# Altium schematic symbol library CapChipCer.SchLib: 223 symbols (part 2 of 2)
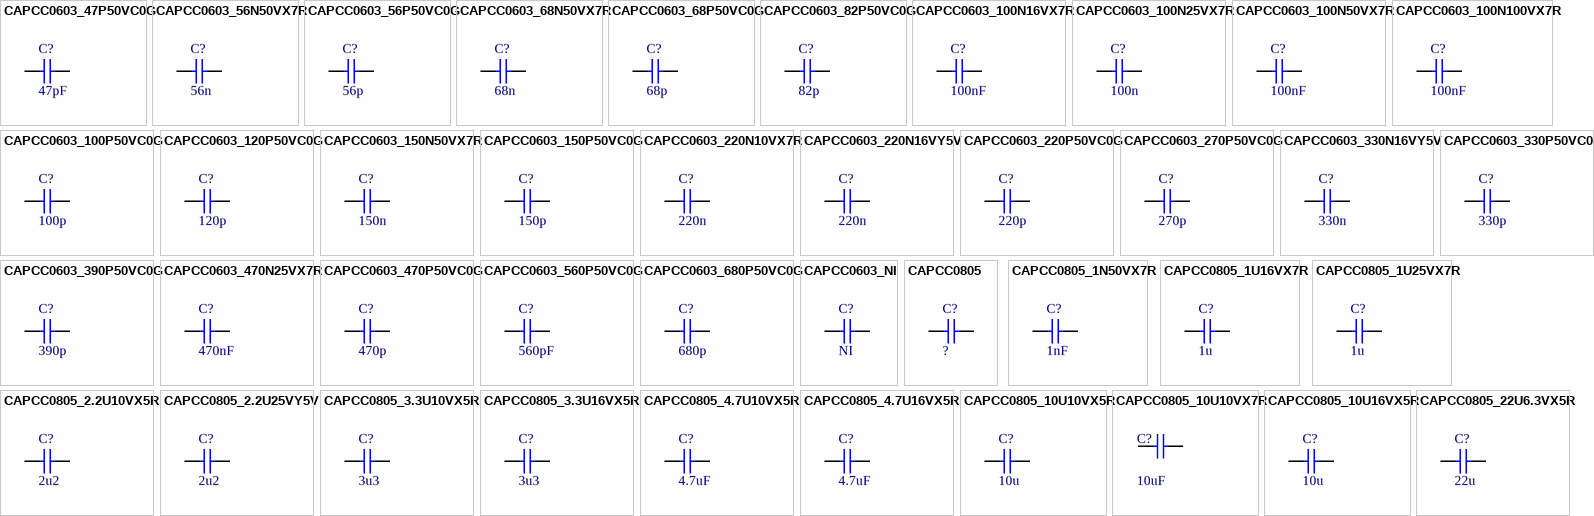
[diagram p6: symbols CAPCC0603_47P50VC0G to CAPCC0805_22U6.3VX5R]

## CAPCC0805_2.2U25VY5V
designator C?, comment 2u2
Capacitor chip ceramic 0805; Manufacturer: Murata, Farnell; Manufacturer No: GRM21BF51E225ZA01L, 9527702; Comment2: 25V X5R +80%-20%; Sort: 210; Tech: SMDR; Package: Cap Chip 0805; Price: 0
signal-integrity model Model Name (Model Description)
footprint CC0805-1 (Chip capacitor  0805)
pins: 1, 2

## CAPCC0805_3.3U10VX5R
designator C?, comment 3u3
Capacitor chip ceramic 0805; Comment2: 10V X5R 10%; Sort: 210; Tech: SMDR; Package: Cap Chip 0805; Price: 0
signal-integrity model Model Name (Model Description)
footprint CC0805-1 (Chip capacitor  0805)
pins: 1, 2

## CAPCC0805_3.3U16VX5R
designator C?, comment 3u3
Capacitor chip ceramic 0805; Manufacturer: Kemet, Farnell; Manufacturer No: C0805C335K4PACTU, 1572630; Comment2: 16V X5R 10%; Sort: 210; Tech: SMDR; Package: Cap Chip 0805; Price: 0
signal-integrity model Model Name (Model Description)
footprint CC0805-1 (Chip capacitor  0805)
pins: 1, 2

## CAPCC0805_4.7U10VX5R
designator C?, comment 4.7uF
Capacitor chip ceramic 0805; Manufacturer: Murata, Farnell; Manufacturer No: GRM21BR61A475KA73L, 1845742; Comment2: 10V X5R 10%; Sort: 210; Tech: SMDR; Package: Cap Chip 0805; Price: 0.075
signal-integrity model Model Name (Model Description)
footprint CC0805-1 (Chip capacitor  0805)
pins: 1, 2

## CAPCC0805_4.7U16VX5R
designator C?, comment 4.7uF
Capacitor chip ceramic 0805; Manufacturer: Murata, Farnell; Manufacturer No: GRM219R61C475KE15D, 1845746; Comment2: 16V X5R 10%; Sort: 210; Tech: SMDR; Package: Cap Chip 0805; Price: 0.08
signal-integrity model Model Name (Model Description)
footprint CC0805-1 (Chip capacitor  0805)
pins: 1, 2

## CAPCC0805_10U10VX5R
designator C?, comment 10u
Capacitor chip ceramic 0805; Manufacturer: Kemet, Farnell; Manufacturer No: C0805C106K8PAC-TU, 1463362; Comment2: 10V X5R 10%; Sort: 210; Tech: SMDR; Package: Cap Chip 0805; Price: 0.25
signal-integrity model Model Name (Model Description)
footprint CC0805-1 (Chip capacitor  0805)
pins: 1, 2

## CAPCC0805_10U10VX7R
designator C?, comment 10uF
Capacitor chip ceramic 0805; Manufacturer: Murata, Farnell; Manufacturer No: GRM21BR71A106KE51L, 1828828; Comment2: 10V X7R 10%; Sort: 210; Tech: SMDR; Package: Cap Chip 0805; Price: 0.34
signal-integrity model Model Name (Model Description)
footprint CC0805-1 (Chip capacitor  0805)
pins: 1, 2

## CAPCC0805_10U16VX5R
designator C?, comment 10u
Capacitor chip ceramic 0805; Comment2: 16V X5R 10%; Sort: 210; Tech: SMDR; Package: Cap Chip 0805; Price: 0
signal-integrity model Model Name (Model Description)
footprint CC0805-1 (Chip capacitor  0805)
pins: 1, 2

## CAPCC0805_22U6.3VX5R
designator C?, comment 22u
Capacitor chip ceramic 0805; Manufacturer: Farnell, Kemet; Manufacturer No: 1650873, C0805C226M9PAC-TU; Comment2: 6.3V X5R 20%; Sort: 210; Tech: SMDR; Package: Cap Chip 0805; Price: 0.5
signal-integrity model Model Name (Model Description)
footprint CC0805-1 (Chip capacitor  0805)
pins: 1, 2

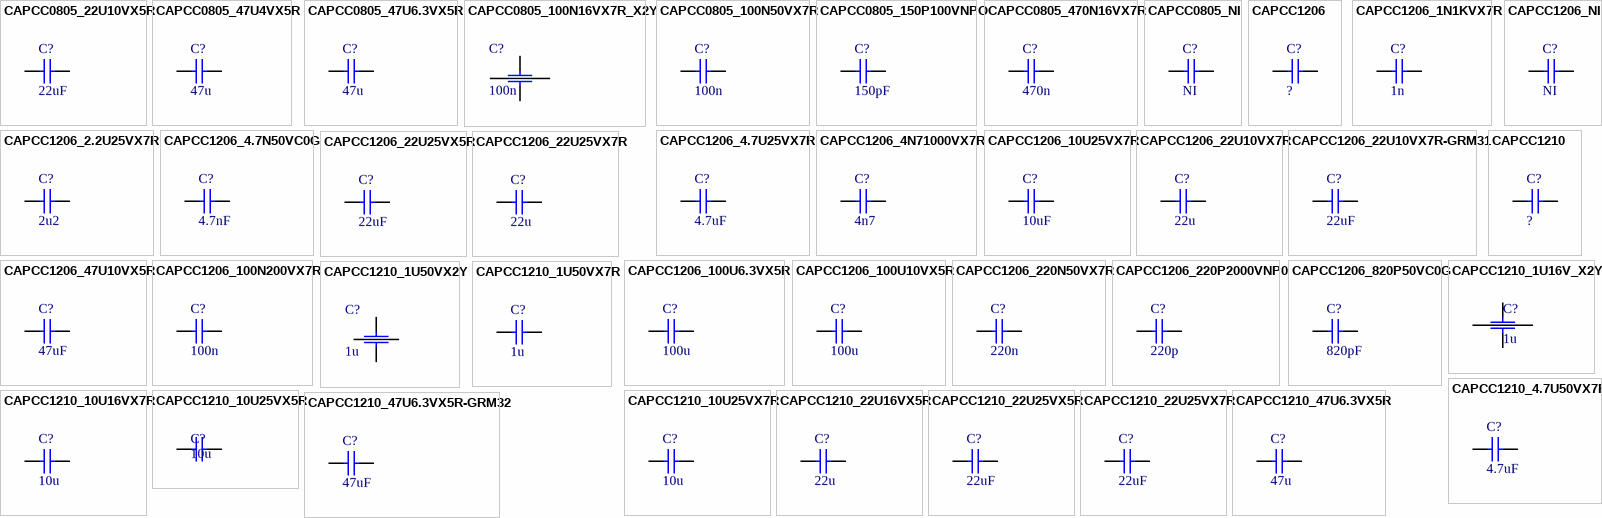
[diagram p4: symbols CAPCC0805_22U10VX5R to CAPCC1210_47U6.3VX5R-GRM32]

## CAPCC0805_22U10VX5R
designator C?, comment 22uF
Capacitor chip ceramic 0805; Manufacturer: TDK; Manufacturer No: C2012X5R1A226M125AB; Comment2: 10V X5R 20%; Sort: 210; Tech: SMDR; Package: Cap Chip 0805; Price: 0.52; Supplier: Digi-Key; Supplier No: 445-7665-1-ND
signal-integrity model Model Name (Model Description)
footprint CC0805-1 (Chip capacitor  0805)
pins: 1, 2

## CAPCC0805_47U4VX5R
designator C?, comment 47u
Capacitor chip ceramic 0805; Manufacturer: Kemet, Farnell; Manufacturer No: C0805C476M7PAC, 1288205; Comment2: 4V X5R 20%; Sort: 210; Tech: SMDR; Package: Cap Chip 0805; Price: 2.64
signal-integrity model Model Name (Model Description)
footprint CC0805-1 (Chip capacitor  0805)
pins: 1, 2

## CAPCC0805_47U6.3VX5R
designator C?, comment 47u
Capacitor chip ceramic 0805; Manufacturer: Kemet, Farnell; Manufacturer No: C0805C476M9PAC 7800, 1572633; Comment2: 6.3V X5R 20%; Sort: 210; Tech: SMDR; Package: Cap Chip 0805; Price: 2.64
signal-integrity model Model Name (Model Description)
footprint CC0805-1 (Chip capacitor  0805)
pins: 1, 2

## CAPCC0805_100N16VX7R_X2Y
designator C?, comment 100n
Capacitor chip ceramic 0805; Comment2: X2Y 16V X7R 20; Sort: 210; Tech: SMDR; Package: Cap Chip 0805 X2Y; Price: 0.035
signal-integrity model Model Name (Model Description)
footprint CC0805-X2Y (Chip capacitor 0805 X2Y)
footprint CC0805-X2Y-1 (Chip capacitor 0805 X2Y)
pins: 1, 2, 3, 3

## CAPCC0805_100N50VX7R
designator C?, comment 100n
Capacitor chip ceramic 0805; Comment2: 50V X7R 10%; Sort: 210; Tech: SMDR; Package: Cap Chip 0805; Price: 0
signal-integrity model Model Name (Model Description)
footprint CC0805-1 (Chip capacitor  0805)
pins: 1, 2

## CAPCC0805_150P100VNPO
designator C?, comment 150pF
Capacitor chip ceramic 0805; Manufacturer: AVX, Farnell; Manufacturer No: 08051A151JAT2A, 1740658; Comment2: 100V COG; Sort: 210; Tech: SMDR; Package: Cap Chip 0805; Price: 0
signal-integrity model Model Name (Model Description)
footprint CC0805-1 (Chip capacitor  0805)
pins: 1, 2

## CAPCC0805_470N16VX7R
designator C?, comment 470n
Capacitor chip ceramic 0805; Comment2: 16V X7R 10%; Sort: 210; Tech: SMDR; Package: Cap Chip 0805; Price: 0
signal-integrity model Model Name (Model Description)
footprint CC0805-1 (Chip capacitor  0805)
pins: 1, 2

## CAPCC0805_NI
designator C?, comment NI
Capacitor chip ceramic 0805; Sort: 210; Tech: SMDR; Package: Cap Chip 0805; Price: 0
signal-integrity model Model Name (Model Description)
footprint CC0805-1 (Chip capacitor  0805)
pins: 1, 2

## CAPCC1206
designator C?, comment ?
Capacitor chip ceramic 1206; Comment2: xxV X7R; Sort: 210; Tech: SMDR; Package: Cap Chip 1206; Price: 0
signal-integrity model Model Name (Model Description)
footprint CC1206-1 (Chip capacitor 1206 (3216))
pins: 1, 2

## CAPCC1206_1N1KVX7R
designator C?, comment 1n
Capacitor chip ceramic 1206; Manufacturer: AVX, Farnell; Manufacturer No: 1206AC102KAT2A , 1216463; Comment2: 1000V X7R 10%; Sort: 210; Tech: SMDR; Package: Cap Chip 1206; Price: 1.9
signal-integrity model Model Name (Model Description)
footprint CC1206-1 (Chip capacitor 1206 (3216))
pins: 1, 2

## CAPCC1206_2.2U25VX7R
designator C?, comment 2u2
Capacitor chip ceramic 1206; Manufacturer: AVX, Farnell; Manufacturer No: 12063C225KAZ2A, 1301808; Comment2: 25V X7R 10%; Sort: 210; Tech: SMDR; Package: Cap Chip 1206; Price: 1.9
signal-integrity model Model Name (Model Description)
footprint CC1206-1 (Chip capacitor 1206 (3216))
pins: 1, 2

## CAPCC1206_4.7N50VC0G
designator C?, comment 4.7nF
Capacitor chip ceramic 1206; Manufacturer: Kemet, Farnell; Manufacturer No: C1206C472J5GATCU, 1414737; Comment2: 50V C0G 5%; Sort: 210; Tech: SMDR; Package: Cap Chip 1206; Price: 0.43
signal-integrity model Model Name (Model Description)
footprint CC1206-1 (Chip capacitor 1206 (3216))
pins: 1, 2

## CAPCC1206_4.7U25VX7R
designator C?, comment 4.7uF
Capacitor chip ceramic 1206; Manufacturer: Murata, Farnell; Manufacturer No: GRM31CR71E475KA88L, 1828835; Comment2: 25V X7R 10%; Sort: 210; Tech: SMDR; Package: Cap Chip 1206; Price: 0.16
signal-integrity model Model Name (Model Description)
footprint CC1206-1 (Chip capacitor 1206 (3216))
pins: 1, 2

## CAPCC1206_4N71000VX7R
designator C?, comment 4n7
Hi Voltage Capacitor chip ceramic 1206; Manufacturer: AVX, Farnell; Manufacturer No: 1206AC472KAT1A, 1216464; Comment2: 1000V X7R 10%; Sort: 210; Tech: SMDR; Package: Cap Chip 1812
signal-integrity model Model Name (Model Description)
footprint CC1206-1 (Chip capacitor 1206 (3216))
pins: 1, 2

## CAPCC1206_10U25VX7R
designator C?, comment 10uF
Capacitor chip ceramic 1206; Manufacturer: Kemet; Manufacturer No: C1206C106K3RACTU; Comment2: 25V X7R 10%; Sort: 210; Tech: SMDR; Package: Cap Chip 1206; Price: 0.71; Supplier: Digi-Key; Supplier No: 399-7442-1-ND
signal-integrity model Model Name (Model Description)
footprint CC1206-1 (Chip capacitor 1206 (3216))
pins: 1, 2

## CAPCC1206_22U10VX7R
designator C?, comment 22u
Capacitor chip ceramic 1206; Manufacturer: Kemet, Farnell; Manufacturer No: C1206C226M8PAC 7800, 1572634; Comment2: 10V X7R 10%; Sort: 210; Tech: SMDR; Package: Cap Chip 1206
signal-integrity model Model Name (Model Description)
footprint CC1206-1 (Chip capacitor 1206 (3216))
pins: 1, 2

## CAPCC1206_22U10VX7R-GRM31
designator C?, comment 22uF
Capacitor chip ceramic 1206; Manufacturer: Murata, Farnell; Manufacturer No: GRM31CR71A226KE15L, 1797016; Comment2: 10V X7R 10% 3mR; Sort: 210; Tech: SMDR; Package: Cap Chip 1206; Price: 0,8
signal-integrity model Model Name (Model Description)
footprint CC1206-1 (Chip capacitor 1206 (3216))
footprint CC1210-1 (Chip capacitor 1210 (3225))
pins: 1, 2

## CAPCC1206_22U25VX5R
designator C?, comment 22uF
Capacitor chip ceramic 1206; Manufacturer: Murata, Farnell; Manufacturer No: GRM31CR61E226KE15L, 1797010; Comment2: 25V X5R 10%; Sort: 210; Tech: SMDR; Package: Cap Chip 1206
signal-integrity model Model Name (Model Description)
footprint CC1206-1 (Chip capacitor 1206 (3216))
pins: 1, 2

## CAPCC1206_22U25VX7R
designator C?, comment 22u
Capacitor chip ceramic 1206; Manufacturer: Kemet, Farnell; Manufacturer No: C1206X226K3RAC; Comment2: 25V X7R 10%; Sort: 210; Tech: SMDR; Package: Cap Chip 1206
signal-integrity model Model Name (Model Description)
footprint CC1206-1 (Chip capacitor 1206 (3216))
pins: 1, 2

## CAPCC1206_47U10VX5R
designator C?, comment 47uF
Capacitor chip ceramic 1206; Manufacturer: Murata, Farnell; Manufacturer No: GRM31CR61A476ME15L, 1797008; Comment2: 10V X5R 20%; Sort: 210; Tech: SMDR; Package: Cap Chip 1206; Price: 0.5
signal-integrity model Model Name (Model Description)
footprint CC1206-1 (Chip capacitor 1206 (3216))
pins: 1, 2

## CAPCC1206_100N200VX7R
designator C?, comment 100n
Capacitor chip ceramic 1206; Manufacturer: Kemet, Farnell; Manufacturer No: C1206C106K8RAC , 1288264; Comment2: 200V X7R 10%; Sort: 210; Tech: SMDR; Package: Cap Chip 1206
signal-integrity model Model Name (Model Description)
footprint CC1206-1 (Chip capacitor 1206 (3216))
pins: 1, 2

## CAPCC1206_100U6.3VX5R
designator C?, comment 100u
Capacitor chip ceramic 1206; Manufacturer: Kemet, Farnell; Manufacturer No: C1206C107M9PAC, 1358552; Comment2: 6.3V X5R 20%; Sort: 210; Tech: SMDR; Package: Cap Chip 1206; Price: 1.9
signal-integrity model Model Name (Model Description)
footprint CC1206-1 (Chip capacitor 1206 (3216))
pins: 1, 2

## CAPCC1206_100U10VX5R
designator C?, comment 100u
Capacitor chip ceramic 1206; Manufacturer: Taiyo, Farnell; Manufacturer No: LMK325BJ107MM-T, 1683577; Comment2: 10V X5R 20%; Sort: 210; Tech: SMDR; Package: Cap Chip 1206; Price: 1.9
signal-integrity model Model Name (Model Description)
footprint CC1206-1 (Chip capacitor 1206 (3216))
pins: 1, 2

## CAPCC1206_220N50VX7R
designator C?, comment 220n
Capacitor chip ceramic 1206; Comment2: 50V X7R 10%; Sort: 210; Tech: SMDR; Package: Cap Chip 1206
signal-integrity model Model Name (Model Description)
footprint CC1206-1 (Chip capacitor 1206 (3216))
pins: 1, 2

## CAPCC1206_220P2000VNP0
designator C?, comment 220p
Hi Voltage Capacitor chip ceramic 1206; Manufacturer: PHYCOMP, Farnell; Manufacturer No: 225002111541, 1284135; Comment2: 2000V NP0 5%; Sort: 210; Tech: SMDR; Package: Cap Chip 1206
signal-integrity model Model Name (Model Description)
footprint CC1206-1 (Chip capacitor 1206 (3216))
pins: 1, 2

## CAPCC1206_820P50VC0G
designator C?, comment 820pF
Capacitor chip ceramic 1206; Manufacturer: Vishay, Farnell; Manufacturer No: VJ1206A821JXAMT, 6508029; Comment2: 50V C0G 5%; Sort: 210; Tech: SMDR; Package: Cap Chip 1206; Price: 0.13
signal-integrity model Model Name (Model Description)
footprint CC1206-1 (Chip capacitor 1206 (3216))
pins: 1, 2

## CAPCC1206_NI
designator C?, comment NI
Capacitor chip ceramic 1206; Sort: 210; Tech: SMDR; Package: Cap Chip 1206; Price: 0
signal-integrity model Model Name (Model Description)
footprint CC1206-1 (Chip capacitor 1206 (3216))
pins: 1, 2

## CAPCC1210
designator C?, comment ?
Capacitor chip ceramic 1210; Comment2: xxV X7R; Sort: 210; Tech: SMDR; Package: Cap Chip 1210; Price: 0
signal-integrity model Model Name (Model Description)
footprint CC1210-1 (Chip capacitor 1210 (3225))
pins: 1, 2

## CAPCC1210_1U16V_X2Y
designator C?, comment 1u
Capacitor chip ceramic 1210 X2Y; Manufacturer: Yageo, Farnell; Manufacturer No: CX1210MKX7R7BB105, 1779289; Comment2: 16V X7R 10%; Sort: 210; Tech: SMDR; Package: Cap Chip 1210 X2Y; Price: 0
signal-integrity model Model Name (Model Description)
footprint CC1210-X2Y (Chip capacitor 1210)
footprint CC1210-X2Y-1 (Chip capacitor 1210)
pins: 1, 2, 3, 3

## CAPCC1210_1U50VX2Y
designator C?, comment 1u
Capacitor chip ceramic 1210 X2Y; Comment2: 16V X7R 10%; Sort: 210; Tech: SMDR; Package: Cap Chip 1210 X2Y; Price: 0
signal-integrity model Model Name (Model Description)
footprint CC1210-X2Y (Chip capacitor 1210)
pins: 1, 2, 3, 3

## CAPCC1210_1U50VX7R
designator C?, comment 1u
Capacitor chip ceramic 1210; Comment2: 50V X7R 10%; Sort: 210; Tech: SMDR; Package: Cap Chip 1210; Price: 0
signal-integrity model Model Name (Model Description)
footprint CC1210-1 (Chip capacitor 1210 (3225))
pins: 1, 2

## CAPCC1210_4.7U50VX7R
designator C?, comment 4.7uF
Capacitor chip ceramic 1210; Manufacturer: Muarat, Farnell; Manufacturer No: GRM32ER71H475KA88L, 1828841; Comment2: 50V X7R 10%; Sort: 210; Tech: SMDR; Package: Cap Chip 1210; Price: 1,1
signal-integrity model Model Name (Model Description)
footprint CC1210-1 (Chip capacitor 1210 (3225))
pins: 1, 2

## CAPCC1210_10U16VX7R
designator C?, comment 10u
Capacitor chip ceramic 1210; Manufacturer: Farnell, Kemet; Manufacturer No: 1288213, C1210C106K4RAC; Comment2: 16V X7R 10%; Sort: 210; Tech: SMDR; Package: Cap Chip 1210; Price: 0.95
signal-integrity model Model Name (Model Description)
footprint CC1210-1 (Chip capacitor 1210 (3225))
pins: 1, 2

## CAPCC1210_10U25VX5R
designator C?, comment 10u
Capacitor chip ceramic 1210; Comment2: 25V X5R; Sort: 210; Tech: SMDR; Package: Cap Chip 1210; Price: 0
signal-integrity model Model Name (Model Description)
footprint CC1210-1 (Chip kondenzator 1210 (3225))
pins: 1, 2

## CAPCC1210_10U25VX7R
designator C?, comment 10u
Capacitor chip ceramic 1210; Manufacturer: Farnell, Kemet; Manufacturer No: 1358512, C1210C106K3RAC; Comment2: 25V X7R 10%; Sort: 210; Tech: SMDR; Package: Cap Chip 1210; Price: 0.8
signal-integrity model Model Name (Model Description)
footprint CC1210-1 (Chip capacitor 1210 (3225))
pins: 1, 2

## CAPCC1210_22U16VX5R
designator C?, comment 22u
Capacitor chip ceramic 1210; Manufacturer: Farnell, Kemet; Manufacturer No: 1288266, C1210C226K4PAC; Comment2: 16V X5R 10%; Sort: 210; Tech: SMDR; Package: Cap Chip 1210; Price: 0.62
signal-integrity model Model Name (Model Description)
footprint CC1210-1 (Chip capacitor 1210 (3225))
pins: 1, 2

## CAPCC1210_22U25VX5R
designator C?, comment 22uF
Capacitor chip ceramic 1210; Manufacturer: AVX, Farnell; Manufacturer No: 12103D226KAT2A, 1833829; Comment2: 25V X5R 10%; Sort: 210; Tech: SMDR; Package: Cap Chip 1210; Price: 1.1
signal-integrity model Model Name (Model Description)
footprint CC1210-1 (Chip capacitor 1210 (3225))
pins: 1, 2

## CAPCC1210_22U25VX7R
designator C?, comment 22uF
Capacitor chip ceramic 1210; Manufacturer: Murata, Farnell; Manufacturer No: GRM32ER71E226KE15L, 1797019; Comment2: 25V X7R 10%; Sort: 210; Tech: SMDR; Package: Cap Chip 1210; Price: 1.5
signal-integrity model Model Name (Model Description)
footprint CC1210-1 (Chip capacitor 1210 (3225))
pins: 1, 2

## CAPCC1210_47U6.3VX5R
designator C?, comment 47u
Capacitor chip ceramic 1210; Manufacturer: Kemet, Farnell; Manufacturer No: C1210C476M9PAC7800, 1108327; Comment2: 6V3  X5R 20%; Sort: 210; Tech: SMDR; Package: Cap Chip 1210; Price: 1.05
signal-integrity model Model Name (Model Description)
footprint CC1210-1 (Chip capacitor 1210 (3225))
pins: 1, 2

## CAPCC1210_47U6.3VX5R-GRM32
designator C?, comment 47uF
Capacitor chip ceramic 1210; Manufacturer: Murata, Farnell; Manufacturer No: GRM32ER60J476ME20L, 9527788; Comment2: 6V3  X5R 20%; Sort: 210; Tech: SMDR; Package: Cap Chip 1210; Price: 1,05
signal-integrity model Model Name (Model Description)
footprint CC1210-1 (Chip capacitor 1210 (3225))
pins: 1, 2

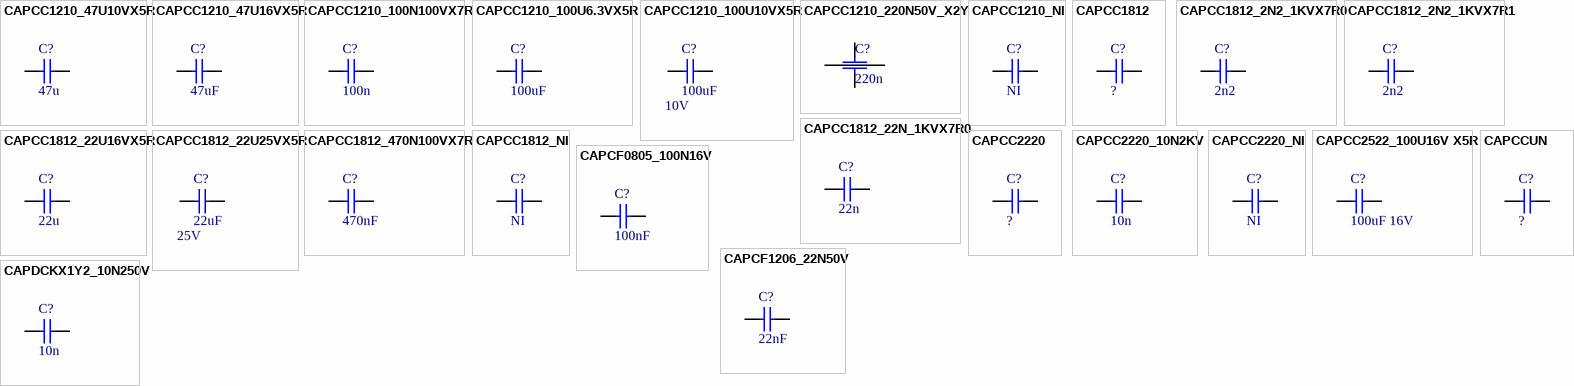
[diagram p5: symbols CAPCC1210_47U10VX5R to CAPDCKX1Y2_10N250V]

## CAPCC1210_47U10VX5R
designator C?, comment 47u
Capacitor chip ceramic 1210; Manufacturer: TAIYO YUDEN , Farnell; Manufacturer No: LMK325BJ476MM-T, 1463411; Comment2: 10V  X5R 20%; Sort: 210; Tech: SMDR; Package: Cap Chip 1210; Price: 0.75; RevDate: 13.02.09
signal-integrity model Model Name (Model Description)
footprint CC1210-1 (Chip capacitor 1210 (3225))
pins: 1, 2

## CAPCC1210_47U16VX5R
designator C?, comment 47uF
Capacitor chip ceramic 1210; Manufacturer: TAIYO YUDEN , Farnell; Manufacturer No: GRM32ER61C476KE15L, 1828819; Comment2: 16V  X5R 10%; Sort: 210; Tech: SMDR; Package: Cap Chip 1210; Price: 1.35; RevDate: 13.02.09
signal-integrity model Model Name (Model Description)
footprint CC1210-1 (Chip capacitor 1210 (3225))
pins: 1, 2

## CAPCC1210_100N100VX7R
designator C?, comment 100n
Capacitor chip ceramic 1210; Comment2: 100V X7R; Sort: 210; Tech: SMDR; Package: Cap Chip 1210; Price: 0
signal-integrity model Model Name (Model Description)
footprint CC1210-1 (Chip capacitor 1210 (3225))
pins: 1, 2

## CAPCC1210_100U6.3VX5R
designator C?, comment 100uF
Capacitor chip ceramic 1210; Manufacturer: Kemet, Farnell; Manufacturer No: C1210C107M9PACTU, 1108328; Comment2: 6V3  X5R 20%; Sort: 210; Tech: SMDR; Package: Cap Chip 1210; Price: 2.8
signal-integrity model Model Name (Model Description)
footprint CC1210-1 (Chip capacitor 1210 (3225))
pins: 1, 2

## CAPCC1210_100U10VX5R
designator C?, comment 100uF  Voltage: 10V
Capacitor chip ceramic 1210; Manufacturer: Taiyo Yuden, Farnell; Manufacturer No: LMK325BJ107MM-T, 1838744; Comment2: 10V  X5R 20%; Sort: 210; Tech: SMDR; Package: Cap Chip 1210; Price: 2.8
signal-integrity model Model Name (Model Description)
footprint CC1210-1 (Chip capacitor 1210 (3225))
pins: 1, 2

## CAPCC1210_220N50V_X2Y
designator C?, comment 220n
Capacitor chip ceramic 1210 X2Y; Comment2: 50V X7R 20%; Sort: 210; Tech: SMDR; Package: Cap Chip 1210 X2Y; Price: 0
signal-integrity model Model Name (Model Description)
footprint CC1210-X2Y (Chip capacitor 1210)
pins: 1, 2, 3, 3

## CAPCC1210_NI
designator C?, comment NI
Capacitor chip ceramic 1210; Sort: 210; Tech: SMDR; Package: Cap Chip 1210; Price: 0
signal-integrity model Model Name (Model Description)
footprint CC1210-1 (Chip capacitor 1210 (3225))
pins: 1, 2

## CAPCC1812
designator C?, comment ?
Capacitor chip ceramic 1812; Comment2: xxV X7R; Sort: 210; Tech: SMDR; Package: Cap Chip 1812; Price: 0
signal-integrity model Model Name (Model Description)
footprint CC1812-1 (Chip capacitor 1812 (4532))
pins: 1, 2

## CAPCC1812_2N2_1KVX7R0
designator C?, comment 2n2
Capacitor chip ceramic 1812; Manufacturer: Kemet, Farnell; Manufacturer No: C1812C222KDRAC, 1702158; Comment2: 2.2nF 1000V X7R; Sort: 210; Tech: SMDR; Package: Cap Chip 1812; Price: 0
signal-integrity model Model Name (Model Description)
footprint CC1812-1 (Chip capacitor 1812 (4532))
pins: 1, 2

## CAPCC1812_2N2_1KVX7R1
designator C?, comment 2n2
Capacitor chip ceramic 1812; Manufacturer: Holy Stone; Manufacturer No: SCC1812X222K302B; Comment2: 2.2nF 1000V X7R; Sort: 210; Tech: SMDR; Package: Cap Chip 1812; Price: 0
signal-integrity model Model Name (Model Description)
footprint CC1812-1 (Chip capacitor 1812 (4532))
pins: 1, 2

## CAPCC1812_22N_1KVX7R0
designator C?, comment 22n
Capacitor chip ceramic 1812; Manufacturer: Kemet, Farnell; Manufacturer No: C1812C223KDRAC, 1702162; Comment2: 22nF 1000V X7R; Sort: 210; Tech: SMDR; Package: Cap Chip 1812; Price: 0
signal-integrity model Model Name (Model Description)
footprint CC1812-1 (Chip capacitor 1812 (4532))
pins: 1, 2

## CAPCC1812_22U16VX5R
designator C?, comment 22u
Capacitor chip ceramic 1812; Manufacturer: Farnell, Phycomp; Manufacturer No: 9402292, 222278413681; Comment2: 16V X5R 10%; Sort: 210; Tech: SMDR; Package: Cap Chip 1812; Price: 1.6
signal-integrity model Model Name (Model Description)
footprint CC1812-1 (Chip capacitor 1812 (4532))
pins: 1, 2

## CAPCC1812_22U25VX5R
designator C?, comment 22uF  Voltage: 25V
Capacitor chip ceramic 1812; Manufacturer: TDK, Farnell; Manufacturer No: C4532X5R1E226M, 1843166; Comment2: 25V X5R 20%; Sort: 210; Tech: SMDR; Package: Cap Chip 1812; Price: 0.9
signal-integrity model Model Name (Model Description)
footprint CC1812-1 (Chip capacitor 1812 (4532))
pins: 1, 2

## CAPCC1812_470N100VX7R
designator C?, comment 470nF
Capacitor chip ceramic 1812; Comment2: 100V X7R; Sort: 210; Tech: SMDR; Package: Cap Chip 1812; Price: 0
signal-integrity model Model Name (Model Description)
footprint CC1812-1 (Chip capacitor 1812 (4532))
pins: 1, 2

## CAPCC1812_NI
designator C?, comment NI
Capacitor chip ceramic 1812; Sort: 210; Tech: SMDR; Package: Cap Chip 1812; Price: 0
signal-integrity model Model Name (Model Description)
footprint CC1812-1 (Chip capacitor 1812 (4532))
pins: 1, 2

## CAPCC2220
designator C?, comment ?
Capacitor chip ceramic 2220; Comment2: xxV X7R; Sort: 210; Tech: SMDR; Package: Cap Chip 2220; Price: 0
signal-integrity model Model Name (Model Description)
footprint CC2220-1 (Chip capacitor 2220 (5750))
pins: 1, 2

## CAPCC2220_10N2KV
designator C?, comment 10n
Capacitor chip ceramic 2220; Manufacturer: AVX, Farnell; Manufacturer No: 2220GC103KAT1A,  1327773; Comment2: 2KV X7R 10%; Sort: 210; Tech: SMDR; Package: Cap Chip 2220; Price: 0
signal-integrity model Model Name (Model Description)
footprint CC2220-1 (Chip capacitor 2220 (5750))
pins: 1, 2

## CAPCC2220_NI
designator C?, comment NI
Capacitor chip ceramic 2220; Sort: 210; Tech: SMDR; Package: Cap Chip 2220; Price: 0
signal-integrity model Model Name (Model Description)
footprint CC2220-1 (Chip capacitor 2220 (5750))
pins: 1, 2

## CAPCC2522_100U16V X5R
designator C?, comment 100uF 16V
Capacitor chip ceramic; Manufacturer: TDK, DigiKey; Manufacturer No: CKG57NX5R1C107M, 445-1656-1-ND; Comment2: 100uF 16V 20%; Sort: 210; Tech: SMDR; Package: Cap Chip 1812; Price: 0
signal-integrity model Model Name (Model Description)
footprint CC2522 (Chip capacitor 6.5x5.5x5.5mm)
pins: 1, 2

## CAPCCUN
designator C?, comment ?
Capacitor chip ceramic; Comment2: xxV X7R; Sort: 210; Tech: SMDR; Package: Cap Chip smt; Price: 0
signal-integrity model Model Name (Model Description)
footprint CC2220-1 (Chip kondenzator 2220 (5750))
footprint CC0402-1 (Chip kondenzator 0402)
footprint CC0603-1 (Chip kondenzator 0603 (1608))
footprint CC0603-2 (Chip kondenzator 0603 (1608))
footprint CC0805-1 (Chip kondenzator 0805)
footprint CC1206-1 (Chip kondenzator 1206 (3216))
footprint CC1812-1 (Chip kondenzator 1812 (4532))
footprint CC1210-1 (Chip kondenzator 1210 (3225))
pins: 1, 2

## CAPCF0805_100N16V
designator C?, comment 100nF
Capacitor Chip Film 0805; Manufacturer: Panasonic, Farnell; Manufacturer No: ECPU1C104MA5, 9694250; Comment2: 16Vdc 20%; Sort: 251; Tech: THDW; Package: Cap Chip Film 0805; Price: 0.26
signal-integrity model Model Name (Model Description)
footprint CC0805-1 (Chip capacitor  0805)
pins: 1, 2

## CAPCF1206_22N50V
designator C?, comment 22nF
Capacitor Chip Film 1206; Manufacturer: AVX, Farnell; Manufacturer No: CB017D0223JBA, 1657961; Comment2: 50Vdc 5% PEN; Sort: 251; Tech: THDW; Package: Cap Chip Film 1206; Price: 0.7
signal-integrity model Model Name (Model Description)
footprint CCF1206 (Chip Capacitor Film, 2-Leads, Body 3,3x1,6mm, IPC Medium Density)
pins: 1, 2

## CAPDCKX1Y2_10N250V
designator C?, comment 10n
Capacitor Disc Ceramic - Safety Disc Capaitors - X1Y1&y1Y2; Manufacturer: Holy Stone; Manufacturer No: SDCY103K5025M6; Comment2: 10N 250Vac; Sort: 210; Tech: SMDR; Package: Cap Chip 0805; Price: 0
signal-integrity model Model Name (Model Description)
footprint CC0805-1 (Chip capacitor  0805)
pins: 1, 2